# EAGLE library part WE-LAN_7490240120 (library WE-LAN)
WE-LAN LAN Transformer 1000 Base-T Characteristics Power over Ethernet up to 150 Watts and speeds up to 1 Gbit/s Available in SMD Compliant with standards: IEEE 802.3u, IEEE 802.3ab, IEEE 802.3af, IEEE 802.3at and upcoming IEEE 802.3bt Applications Suitable for industrial temperatures from –40 °C up to +125 °C Compatible to Industrial Ethernet systems like EtherCAT or Profinet Compliant with most IC’s for Ethernet applications such as Microchip, Texas Instruments, Broadcom, Linear Technology Hubs, Routers, Switches, IP cameras, IoT applications <https://www.we-online.com/catalog/media/o14800v209%20WE-LAN%20-%20Kopie.jpg> Details see: https://www.we-online.com/catalog/en/WE-LAN/ Created by Ella Wu, 2020-07-08 2020 (C) Würth Elektronik
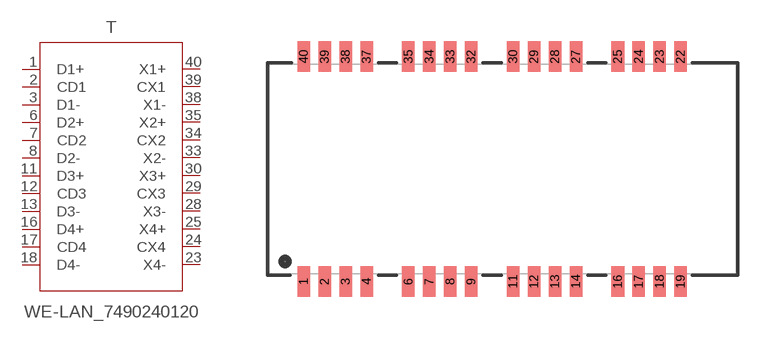
[diagram p28: symbol with the pads of WE-LAN_7490240120; footprint WE-LAN_7490240120]

Designator prefix T

## WE-LAN_7490240120 (DATA-RATE: 1000 Base-T; DATASHEET-URL: https://www.we-online.com/catalog/datasheet/7490240120.pdf; HPLE: No; L: 350uH; MOUNT: SMT; PART-NUMBER: 7490240120; POE: non-PoE; VALUE: 7490240120; VT: 4000 V (RMS))  [WE-LAN_7490240120]
1  D1+  pas
2  CD1  pas
3  D1-  pas
6  D2+  pas
7  CD2  pas
8  D2-  pas
11  D3+  pas
12  CD3  pas
13  D3-  pas
16  D4+  pas
17  CD4  pas
18  D4-  pas
23  X4-  pas
24  CX4  pas
25  X4+  pas
28  X3-  pas
29  CX3  pas
30  X3+  pas
33  X2-  pas
34  CX2  pas
35  X2+  pas
38  X1-  pas
39  CX1  pas
40  X1+  pas

## Footprint WE-LAN_7490240120 (pad centres in mm)
WE-LAN 1000BT 1 Port Medical ETR SMT Transformer,40Pins
smd 0.76 x 1.86: 1 -11.43,-6.815; 2 -10.16,-6.815; 3 -8.89,-6.815; 4 -7.62,-6.815; 6 -5.08,-6.815; 7 -3.81,-6.815; 8 -2.54,-6.815; 9 -1.27,-6.815; 11 1.27,-6.815; 12 2.54,-6.815; 13 3.81,-6.815; 14 5.08,-6.815; 16 7.62,-6.815; 17 8.89,-6.815; 18 10.16,-6.815; 19 11.43,-6.815; 22 11.43,6.815; 23 10.16,6.815; 24 8.89,6.815; 25 7.62,6.815; 27 5.08,6.815; 28 3.81,6.815; 29 2.54,6.815; 30 1.27,6.815; 32 -1.27,6.815; 33 -2.54,6.815; 34 -3.81,6.815; 35 -5.08,6.815; 37 -7.62,6.815; 38 -8.89,6.815; 39 -10.16,6.815; 40 -11.43,6.815